# EAGLE library part 68714414522 (library Eagle_FPC_CONNECTOR_AND_FFC_CAB (rev18c))
WR-FPC 0.5mm SMT ZIF Horizontal Bottom Contact, 44 Pins=>Code : Con_FPC_ZIF_0.50_68714414522 <http://katalog.we-online.de/media/images/eican/Con_FPC_ZIF_0.50_6871xx14522_pf2.jpg> Details see: http://katalog.we-online.de/en/em/687_1xx_145_22 Created 2014-07-09, Karrer Zheng 2014 (C) Würth Elektronik
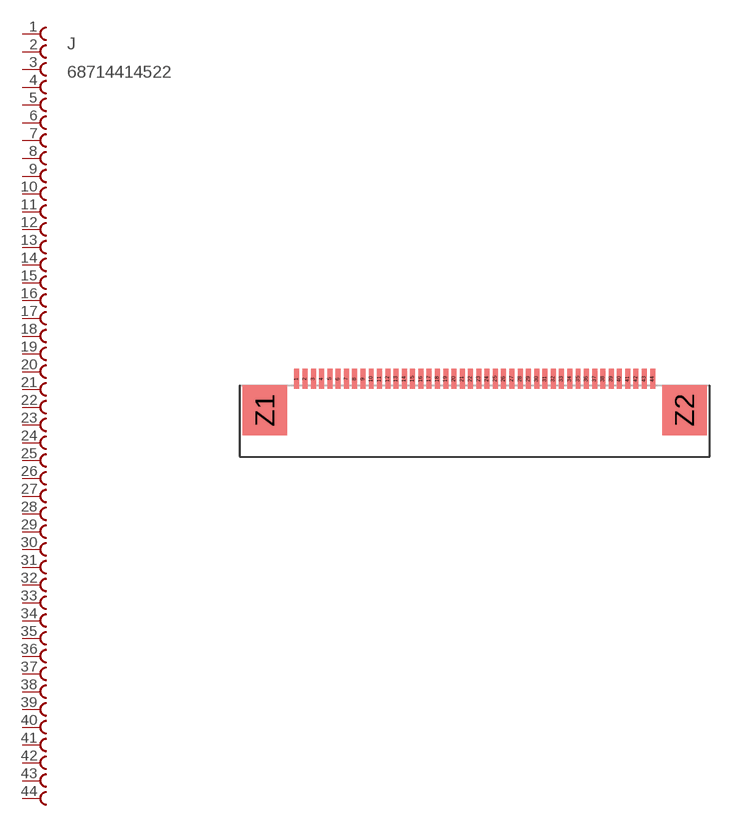
[diagram p68: symbol with the pads of 68714414522; footprint 68714414522]

Designator prefix J

## 68714414522  [68714414522]
1  1  pas
2  2  pas
3  3  pas
4  4  pas
5  5  pas
6  6  pas
7  7  pas
8  8  pas
9  9  pas
10  10  pas
11  11  pas
12  12  pas
13  13  pas
14  14  pas
15  15  pas
16  16  pas
17  17  pas
18  18  pas
19  19  pas
20  20  pas
21  21  pas
22  22  pas
23  23  pas
24  24  pas
25  25  pas
26  26  pas
27  27  pas
28  28  pas
29  29  pas
30  30  pas
31  31  pas
32  32  pas
33  33  pas
34  34  pas
35  35  pas
36  36  pas
37  37  pas
38  38  pas
39  39  pas
40  40  pas
41  41  pas
42  42  pas
43  43  pas
44  44  pas

## Footprint 68714414522 (pad centres in mm)
WR-FPC 0.5mm SMT ZIF Horizontal Bottom Contact, 44 Pins
smd 0.3 x 1.2: 1 -10.75,1.9; 2 -10.25,1.9; 3 -9.75,1.9; 4 -9.25,1.9; 5 -8.75,1.9; 6 -8.25,1.9; 7 -7.75,1.9; 8 -7.25,1.9; 9 -6.75,1.9; 10 -6.25,1.9; 11 -5.75,1.9; 12 -5.25,1.9; 13 -4.75,1.9; 14 -4.25,1.9; 15 -3.75,1.9; 16 -3.25,1.9; 17 -2.75,1.9; 18 -2.25,1.9; 19 -1.75,1.9; 20 -1.25,1.9; 21 -0.75,1.9; 22 -0.25,1.9; 23 0.25,1.9; 24 0.75,1.9; 25 1.25,1.9; 26 1.75,1.9; 27 2.25,1.9; 28 2.75,1.9; 29 3.25,1.9; 30 3.75,1.9; 31 4.25,1.9; 32 4.75,1.9; 33 5.25,1.9; 34 5.75,1.9; 35 6.25,1.9; 36 6.75,1.9; 37 7.25,1.9; 38 7.75,1.9; 39 8.25,1.9; 40 8.75,1.9; 41 9.25,1.9; 42 9.75,1.9; 43 10.25,1.9; 44 10.75,1.9
smd 2.7 x 3: Z1 -12.68,0; Z2 12.68,0